# Altium integrated library Linear Technology Power Management System Supervisor, Monitor and Control.IntLib: 1611 symbols (part 94 of 100)
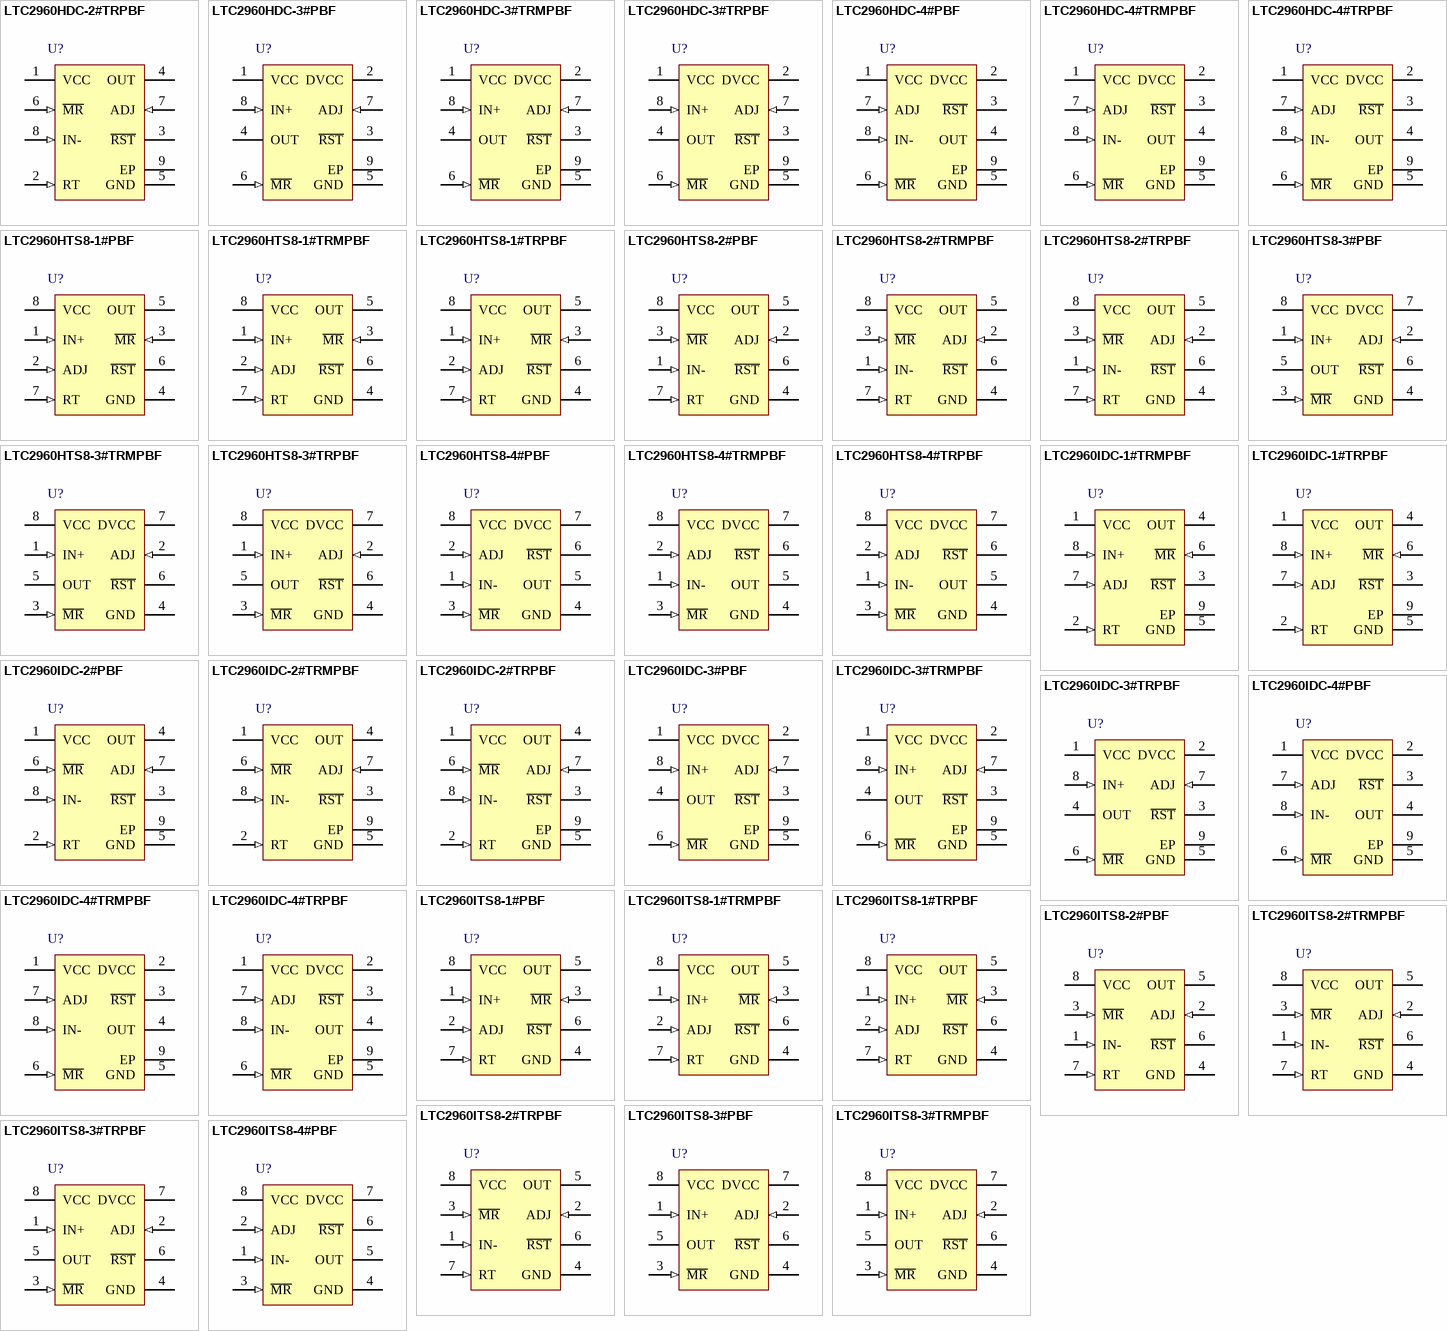
[diagram p138: symbols LTC2960HDC-2#TRPBF to LTC2960ITS8-4#PBF]

## LTC2960HTS8-4#TRPBF
designator U?
36 V Nano-Current Two Input Voltage Monitor, 8-pin SOT23 (TS8-8), -40 to 125 degC, Pb-Free, Tape and Reel; Manufacturer: Linear Technology; PartNumber: LTC2960HTS8-4#TRPBF; Number of Supplies(#): 2; PackageVersion: Rev. A, 08/2010; PackageReference: TS8-8; PackageDescription: 8-Pin Plastic TSOT-23, Body 2.9 x 1.63 mm, Pitch 0.65 mm; Supplier 1: Digi-Key; Supplier Part Number 1: LTC2960HTS8-4#TRPBF-ND; Packing: Tape and Reel; RoHS: TRUE; Mounting Technology: Surface Mount; Code_JEDEC: MO-193; ComponentLink1Description: Manufacturer URL; ComponentLink1URL: http://www.linear.com/; ComponentLink2Description: Datasheet; ComponentLink2URL: http://cds.linear.com/docs/en/datasheet/2960f.pdf; ComponentLink3Description: Package Specification; ComponentLink3URL: http://cds.linear.com/docs/en/packaging/SOT_8_05-08-1637.pdf
footprint LT-TS8-8-TSOT-23_V (SOT23, 8-Leads, Body 2.9x1.75mm, Pitch 0.65mm)
pins: 1 IN- (in) "IN- Threshold Adjustment Input. Tie to resistive divider to configure required threshold. Tie to GND if unused.", 2 ADJ (in) "Reset Threshold Adjustment Input. Tie to resistive divider to configure desired reset threshold.", 3 ~{MR} (in) "Manual Reset Input. Attach a push-button switch or logic signal between this input and ground. A logic low on this input pulls R\S\T\ low. When the M\R\ input returns to logic high, R\S\T\ returns high after a reset timeout (See Datasheet)", 4 GND (power) "Device ground.", 5 OUT (oc) "OUT pulls low when the monitored voltage rises above the IN- threshold. Released when monitored voltage falls below IN- threshold by 5%. For the LTC2960-4, OUT is driven to DVCC for a logic high. OUT is open drain if DVCC is (See Datasheet)", 6 ~{RST} (oc) "Reset Output. Pulls low when monitored voltage falls below the reset (ADJ) threshold. R\S\T\ is released after monitored voltage exceeds the reset threshold plus 2.5% hysteresis and after reset timeout period has expired. (See Datasheet)", 7 DVCC (power) "Logic Supply Input. Used for setting the logic swing of the R\S\T\ and OUT outputs. Useful for interfacing with logic voltages different from VCC. Bypass DVCC with 0.1uF to GND. Grounding DVCC allows OUT and R\S\T\ to act as (See Datasheet)", 8 VCC (power) "Power Supply Input. When VCC falls below the falling UVLO threshold, the outputs are pulled low. If VCC falls below 1.2V the logic state of the outputs cannot be guaranteed. Bypass VCC with 0.1uF to GND. Use appropriate (See Datasheet)"

## LTC2960IDC-1#TRMPBF
designator U?
36 V Nano-Current Two Input Voltage Monitor, 8-pin SON (DC8-8), -40 to 85 degC, Pb-Free, Mini Tape and Reel; Manufacturer: Linear Technology; PartNumber: LTC2960IDC-1#TRMPBF; Number of Supplies(#): 2; PackageVersion: Rev. A, 06/2010; PackageReference: DC8-8; PackageDescription: 8-Pin Plastic DFN, Body 2 x 2 mm, Pitch 0.45 mm; Supplier 1: Digi-Key; Supplier Part Number 1: LTC2960IDC-1#TRMPBFTR-ND; Supplier 2: Digi-Key; Supplier Part Number 2: LTC2960IDC-1#TRMPBFCT-ND; Supplier 3: Digi-Key; Supplier Part Number 3: LTC2960IDC-1#TRMPBFDKR-ND; Packing: Mini Tape and Reel; RoHS: TRUE; Mounting Technology: Surface Mount; ComponentLink1Description: Manufacturer URL; ComponentLink1URL: http://www.linear.com/; ComponentLink2Description: Datasheet; ComponentLink2URL: http://cds.linear.com/docs/en/datasheet/2960f.pdf; ComponentLink3Description: Package Specification; ComponentLink3URL: http://www.linear.com/docs/en/packaging/DFN_8_05-08-1719.pdf
footprint LT-DC8-8_V (SON, 8-Leads, Body 2x2mm, Pitch 0.45mm, Thermal Pad 1.37x0.64mm)
pins: 1 VCC (power) "Power Supply Input. When VCC falls below the falling UVLO threshold, the outputs are pulled low. If VCC falls below 1.2V the logic state of the outputs cannot be guaranteed. Bypass VCC with 0.1uF to GND. Use appropriate (See Datasheet)", 2 RT (in) "Reset Timeout Period Selection Input. Tie to GND for 15ms delay. Tie to VCC for 200ms delay.", 3 ~{RST} (oc) "Reset Output. Pulls low when monitored voltage falls below the reset (ADJ) threshold. R\S\T\ is released after monitored voltage exceeds the reset threshold plus 2.5% hysteresis and after reset timeout period has expired.", 4 OUT (oc) "Pulls low when monitored voltage falls below the IN+ threshold. Released when the IN+ voltage rises above its threshold by 5%.", 5 GND (power) "Device ground.", 6 ~{MR} (in) "Manual Reset Input. Attach a push-button switch or logic signal between this input and ground. A logic low on this input pulls R\S\T\ low. When the M\R\ input returns to logic high, R\S\T\ returns high after a reset timeout (See Datasheet)", 7 ADJ (in) "Reset Threshold Adjustment Input. Tie to resistive divider to configure desired reset threshold.", 8 IN+ (in) "IN+ Threshold Adjustment Input. Tie to resistive divider to configure required threshold. Tie to GND if unused.", 9 EP (power) "Exposed pad PCB GND"

## LTC2960IDC-1#TRPBF
designator U?
36 V Nano-Current Two Input Voltage Monitor, 8-pin SON (DC8-8), -40 to 85 degC, Pb-Free, Tape and Reel; Manufacturer: Linear Technology; PartNumber: LTC2960IDC-1#TRPBF; Number of Supplies(#): 2; PackageVersion: Rev. A, 06/2010; PackageReference: DC8-8; PackageDescription: 8-Pin Plastic DFN, Body 2 x 2 mm, Pitch 0.45 mm; Supplier 1: Digi-Key; Supplier Part Number 1: LTC2960IDC-1#TRPBF-ND; Packing: Tape and Reel; RoHS: TRUE; Mounting Technology: Surface Mount; ComponentLink1Description: Manufacturer URL; ComponentLink1URL: http://www.linear.com/; ComponentLink2Description: Datasheet; ComponentLink2URL: http://cds.linear.com/docs/en/datasheet/2960f.pdf; ComponentLink3Description: Package Specification; ComponentLink3URL: http://www.linear.com/docs/en/packaging/DFN_8_05-08-1719.pdf
footprint LT-DC8-8_V (SON, 8-Leads, Body 2x2mm, Pitch 0.45mm, Thermal Pad 1.37x0.64mm)
pins: 1 VCC (power) "Power Supply Input. When VCC falls below the falling UVLO threshold, the outputs are pulled low. If VCC falls below 1.2V the logic state of the outputs cannot be guaranteed. Bypass VCC with 0.1uF to GND. Use appropriate (See Datasheet)", 2 RT (in) "Reset Timeout Period Selection Input. Tie to GND for 15ms delay. Tie to VCC for 200ms delay.", 3 ~{RST} (oc) "Reset Output. Pulls low when monitored voltage falls below the reset (ADJ) threshold. R\S\T\ is released after monitored voltage exceeds the reset threshold plus 2.5% hysteresis and after reset timeout period has expired.", 4 OUT (oc) "Pulls low when monitored voltage falls below the IN+ threshold. Released when the IN+ voltage rises above its threshold by 5%.", 5 GND (power) "Device ground.", 6 ~{MR} (in) "Manual Reset Input. Attach a push-button switch or logic signal between this input and ground. A logic low on this input pulls R\S\T\ low. When the M\R\ input returns to logic high, R\S\T\ returns high after a reset timeout (See Datasheet)", 7 ADJ (in) "Reset Threshold Adjustment Input. Tie to resistive divider to configure desired reset threshold.", 8 IN+ (in) "IN+ Threshold Adjustment Input. Tie to resistive divider to configure required threshold. Tie to GND if unused.", 9 EP (power) "Exposed pad PCB GND"

## LTC2960IDC-2#PBF
designator U?
36 V Nano-Current Two Input Voltage Monitor, 8-pin SON (DC8-8), -40 to 85 degC, Pb-Free; Manufacturer: Linear Technology; PartNumber: LTC2960IDC-2#PBF; Number of Supplies(#): 2; PackageVersion: Rev. A, 06/2010; PackageReference: DC8-8; PackageDescription: 8-Pin Plastic DFN, Body 2 x 2 mm, Pitch 0.45 mm; Supplier 1: Farnell; Supplier Part Number 1: 2097973; Supplier 2: Newark; Supplier Part Number 2: 93T2014; RoHS: TRUE; Mounting Technology: Surface Mount; ComponentLink1Description: Manufacturer URL; ComponentLink1URL: http://www.linear.com/; ComponentLink2Description: Datasheet; ComponentLink2URL: http://cds.linear.com/docs/en/datasheet/2960f.pdf; ComponentLink3Description: Package Specification; ComponentLink3URL: http://www.linear.com/docs/en/packaging/DFN_8_05-08-1719.pdf
footprint LT-DC8-8_V (SON, 8-Leads, Body 2x2mm, Pitch 0.45mm, Thermal Pad 1.37x0.64mm)
pins: 1 VCC (power) "Power Supply Input. When VCC falls below the falling UVLO threshold, the outputs are pulled low. If VCC falls below 1.2V the logic state of the outputs cannot be guaranteed. Bypass VCC with 0.1uF to GND. Use appropriate (See Datasheet)", 2 RT (in) "Reset Timeout Period Selection Input. Tie to GND for 15ms delay. Tie to VCC for 200ms delay.", 3 ~{RST} (oc) "Reset Output. Pulls low when monitored voltage falls below the reset (ADJ) threshold.", 4 OUT (oc) "Pulls low when monitored voltage falls below the IN+ threshold.", 5 GND (power) "Device ground.", 6 ~{MR} (in) "Manual Reset Input. Attach a push-button switch or logic signal between this input and ground. A logic low on this input pulls R\S\T\ low. When the M\R\ input returns to logic high, R\S\T\ returns high after a reset timeout (See Datasheet)", 7 ADJ (in) "Reset Threshold Adjustment Input. Tie to resistive divider to configure desired reset threshold.", 8 IN- (in) "IN- Threshold Adjustment Input. Tie to resistive divider to configure required threshold. Tie to GND if unused.", 9 EP (power) "Exposed pad may be left floating or connected to device ground."

## LTC2960IDC-2#TRMPBF
designator U?
36 V Nano-Current Two Input Voltage Monitor, 8-pin SON (DC8-8), -40 to 85 degC, Pb-Free, Mini Tape and Reel; Manufacturer: Linear Technology; PartNumber: LTC2960IDC-2#TRMPBF; Number of Supplies(#): 2; PackageVersion: Rev. A, 06/2010; PackageReference: DC8-8; PackageDescription: 8-Pin Plastic DFN, Body 2 x 2 mm, Pitch 0.45 mm; Supplier 1: Digi-Key; Supplier Part Number 1: LTC2960IDC-2#TRMPBFTR-ND; Supplier 2: Digi-Key; Supplier Part Number 2: LTC2960IDC-2#TRMPBFCT-ND; Supplier 3: Digi-Key; Supplier Part Number 3: LTC2960IDC-2#TRMPBFDKR-ND; Packing: Mini Tape and Reel; RoHS: TRUE; Mounting Technology: Surface Mount; ComponentLink1Description: Manufacturer URL; ComponentLink1URL: http://www.linear.com/; ComponentLink2Description: Datasheet; ComponentLink2URL: http://cds.linear.com/docs/en/datasheet/2960f.pdf; ComponentLink3Description: Package Specification; ComponentLink3URL: http://www.linear.com/docs/en/packaging/DFN_8_05-08-1719.pdf
footprint LT-DC8-8_V (SON, 8-Leads, Body 2x2mm, Pitch 0.45mm, Thermal Pad 1.37x0.64mm)
pins: 1 VCC (power) "Power Supply Input. When VCC falls below the falling UVLO threshold, the outputs are pulled low. If VCC falls below 1.2V the logic state of the outputs cannot be guaranteed. Bypass VCC with 0.1uF to GND. Use appropriate (See Datasheet)", 2 RT (in) "Reset Timeout Period Selection Input. Tie to GND for 15ms delay. Tie to VCC for 200ms delay.", 3 ~{RST} (oc) "Reset Output. Pulls low when monitored voltage falls below the reset (ADJ) threshold.", 4 OUT (oc) "Pulls low when monitored voltage falls below the IN+ threshold.", 5 GND (power) "Device ground.", 6 ~{MR} (in) "Manual Reset Input. Attach a push-button switch or logic signal between this input and ground. A logic low on this input pulls R\S\T\ low. When the M\R\ input returns to logic high, R\S\T\ returns high after a reset timeout (See Datasheet)", 7 ADJ (in) "Reset Threshold Adjustment Input. Tie to resistive divider to configure desired reset threshold.", 8 IN- (in) "IN- Threshold Adjustment Input. Tie to resistive divider to configure required threshold. Tie to GND if unused.", 9 EP (power) "Exposed pad may be left floating or connected to device ground."

## LTC2960IDC-2#TRPBF
designator U?
36 V Nano-Current Two Input Voltage Monitor, 8-pin SON (DC8-8), -40 to 85 degC, Pb-Free, Tape and Reel; Manufacturer: Linear Technology; PartNumber: LTC2960IDC-2#TRPBF; Number of Supplies(#): 2; PackageVersion: Rev. A, 06/2010; PackageReference: DC8-8; PackageDescription: 8-Pin Plastic DFN, Body 2 x 2 mm, Pitch 0.45 mm; Supplier 1: Digi-Key; Supplier Part Number 1: LTC2960IDC-2#TRPBF-ND; Packing: Tape and Reel; RoHS: TRUE; Mounting Technology: Surface Mount; ComponentLink1Description: Manufacturer URL; ComponentLink1URL: http://www.linear.com/; ComponentLink2Description: Datasheet; ComponentLink2URL: http://cds.linear.com/docs/en/datasheet/2960f.pdf; ComponentLink3Description: Package Specification; ComponentLink3URL: http://www.linear.com/docs/en/packaging/DFN_8_05-08-1719.pdf
footprint LT-DC8-8_V (SON, 8-Leads, Body 2x2mm, Pitch 0.45mm, Thermal Pad 1.37x0.64mm)
pins: 1 VCC (power) "Power Supply Input. When VCC falls below the falling UVLO threshold, the outputs are pulled low. If VCC falls below 1.2V the logic state of the outputs cannot be guaranteed. Bypass VCC with 0.1uF to GND. Use appropriate (See Datasheet)", 2 RT (in) "Reset Timeout Period Selection Input. Tie to GND for 15ms delay. Tie to VCC for 200ms delay.", 3 ~{RST} (oc) "Reset Output. Pulls low when monitored voltage falls below the reset (ADJ) threshold.", 4 OUT (oc) "Pulls low when monitored voltage falls below the IN+ threshold.", 5 GND (power) "Device ground.", 6 ~{MR} (in) "Manual Reset Input. Attach a push-button switch or logic signal between this input and ground. A logic low on this input pulls R\S\T\ low. When the M\R\ input returns to logic high, R\S\T\ returns high after a reset timeout (See Datasheet)", 7 ADJ (in) "Reset Threshold Adjustment Input. Tie to resistive divider to configure desired reset threshold.", 8 IN- (in) "IN- Threshold Adjustment Input. Tie to resistive divider to configure required threshold. Tie to GND if unused.", 9 EP (power) "Exposed pad may be left floating or connected to device ground."

## LTC2960IDC-3#PBF
designator U?
36 V Nano-Current Two Input Voltage Monitor, 8-pin SON (DC8-8), -40 to 85 degC, Pb-Free; Manufacturer: Linear Technology; PartNumber: LTC2960IDC-3#PBF; Number of Supplies(#): 2; PackageVersion: Rev. A, 06/2010; PackageReference: DC8-8; PackageDescription: 8-Pin Plastic DFN, Body 2 x 2 mm, Pitch 0.45 mm; Supplier 1: Farnell; Supplier Part Number 1: 2097974; Supplier 2: Newark; Supplier Part Number 2: 93T2015; RoHS: TRUE; Mounting Technology: Surface Mount; ComponentLink1Description: Manufacturer URL; ComponentLink1URL: http://www.linear.com/; ComponentLink2Description: Datasheet; ComponentLink2URL: http://cds.linear.com/docs/en/datasheet/2960f.pdf; ComponentLink3Description: Package Specification; ComponentLink3URL: http://www.linear.com/docs/en/packaging/DFN_8_05-08-1719.pdf
footprint LT-DC8-8_V (SON, 8-Leads, Body 2x2mm, Pitch 0.45mm, Thermal Pad 1.37x0.64mm)
pins: 1 VCC (power) "Power Supply Input. When VCC falls below the falling UVLO threshold, the outputs are pulled low. If VCC falls below 1.2V the logic state of the outputs cannot be guaranteed. Bypass VCC with 0.1uF to GND. Use appropriate (See Datasheet)", 2 DVCC (power) "LTC2960-3 Logic Supply Input. Used for setting the logic swing of the R\S\T\ and OUT outputs. Useful for interfacing with logic voltages different from VCC. Bypass DVCC with 0.1uF to GND. Grounding DVCC allows OUT and R\S\T\ (See Datasheet)", 3 ~{RST} (oc) "Reset Output. Pulls low when monitored voltage falls below the reset (ADJ) threshold. R\S\T\ is released after monitored voltage exceeds the reset threshold plus 2.5% hysteresis and after reset timeout period has expired. (See Datasheet)", 4 OUT (oc) "LTC2960-3 Pulls low when monitored voltage falls below the IN+ threshold. Released when the IN+ voltage rises above its threshold by 5%. For the LTC2960-3, OUT is driven by DVCC when logic high. OUT is open drain if DVCC is (See Datasheet)", 5 GND (power) "Device ground.", 6 ~{MR} (in) "Manual Reset Input. Attach a push-button switch or logic signal between this input and ground. A logic low on this input pulls R\S\T\ low. When the M\R\ input returns to logic high, R\S\T\ returns high after a reset timeout (See Datasheet)", 7 ADJ (in) "Reset Threshold Adjustment Input. Tie to resistive divider to configure desired reset threshold.", 8 IN+ (in) "LTC2960-3 IN+ Threshold Adjustment Input. Tie to resistive divider to configure required threshold. Tie to GND if unused.", 9 EP (power) "Exposed pad may be left floating or connected to device ground."

## LTC2960IDC-3#TRMPBF
designator U?
36 V Nano-Current Two Input Voltage Monitor, 8-pin SON (DC8-8), -40 to 85 degC, Pb-Free, Mini Tape and Reel; Manufacturer: Linear Technology; PartNumber: LTC2960IDC-3#TRMPBF; Number of Supplies(#): 2; PackageVersion: Rev. A, 06/2010; PackageReference: DC8-8; PackageDescription: 8-Pin Plastic DFN, Body 2 x 2 mm, Pitch 0.45 mm; Supplier 1: Digi-Key; Supplier Part Number 1: LTC2960IDC-3#TRMPBFTR-ND; Supplier 2: Digi-Key; Supplier Part Number 2: LTC2960IDC-3#TRMPBFCT-ND; Supplier 3: Digi-Key; Supplier Part Number 3: LTC2960IDC-3#TRMPBFDKR-ND; Supplier 4: Newark; Supplier Part Number 4: 94T1225; Packing: Mini Tape and Reel; RoHS: TRUE; Mounting Technology: Surface Mount; ComponentLink1Description: Manufacturer URL; ComponentLink1URL: http://www.linear.com/; ComponentLink2Description: Datasheet; ComponentLink2URL: http://cds.linear.com/docs/en/datasheet/2960f.pdf; ComponentLink3Description: Package Specification; ComponentLink3URL: http://www.linear.com/docs/en/packaging/DFN_8_05-08-1719.pdf
footprint LT-DC8-8_V (SON, 8-Leads, Body 2x2mm, Pitch 0.45mm, Thermal Pad 1.37x0.64mm)
pins: 1 VCC (power) "Power Supply Input. When VCC falls below the falling UVLO threshold, the outputs are pulled low. If VCC falls below 1.2V the logic state of the outputs cannot be guaranteed. Bypass VCC with 0.1uF to GND. Use appropriate (See Datasheet)", 2 DVCC (power) "LTC2960-3 Logic Supply Input. Used for setting the logic swing of the R\S\T\ and OUT outputs. Useful for interfacing with logic voltages different from VCC. Bypass DVCC with 0.1uF to GND. Grounding DVCC allows OUT and R\S\T\ (See Datasheet)", 3 ~{RST} (oc) "Reset Output. Pulls low when monitored voltage falls below the reset (ADJ) threshold. R\S\T\ is released after monitored voltage exceeds the reset threshold plus 2.5% hysteresis and after reset timeout period has expired. (See Datasheet)", 4 OUT (oc) "LTC2960-3 Pulls low when monitored voltage falls below the IN+ threshold. Released when the IN+ voltage rises above its threshold by 5%. For the LTC2960-3, OUT is driven by DVCC when logic high. OUT is open drain if DVCC is (See Datasheet)", 5 GND (power) "Device ground.", 6 ~{MR} (in) "Manual Reset Input. Attach a push-button switch or logic signal between this input and ground. A logic low on this input pulls R\S\T\ low. When the M\R\ input returns to logic high, R\S\T\ returns high after a reset timeout (See Datasheet)", 7 ADJ (in) "Reset Threshold Adjustment Input. Tie to resistive divider to configure desired reset threshold.", 8 IN+ (in) "LTC2960-3 IN+ Threshold Adjustment Input. Tie to resistive divider to configure required threshold. Tie to GND if unused.", 9 EP (power) "Exposed pad may be left floating or connected to device ground."

## LTC2960IDC-3#TRPBF
designator U?
36 V Nano-Current Two Input Voltage Monitor, 8-pin SON (DC8-8), -40 to 85 degC, Pb-Free, Tape and Reel; Manufacturer: Linear Technology; PartNumber: LTC2960IDC-3#TRPBF; Number of Supplies(#): 2; PackageVersion: Rev. A, 06/2010; PackageReference: DC8-8; PackageDescription: 8-Pin Plastic DFN, Body 2 x 2 mm, Pitch 0.45 mm; Supplier 1: Digi-Key; Supplier Part Number 1: LTC2960IDC-3#TRPBF-ND; Packing: Tape and Reel; RoHS: TRUE; Mounting Technology: Surface Mount; ComponentLink1Description: Manufacturer URL; ComponentLink1URL: http://www.linear.com/; ComponentLink2Description: Datasheet; ComponentLink2URL: http://cds.linear.com/docs/en/datasheet/2960f.pdf; ComponentLink3Description: Package Specification; ComponentLink3URL: http://www.linear.com/docs/en/packaging/DFN_8_05-08-1719.pdf
footprint LT-DC8-8_V (SON, 8-Leads, Body 2x2mm, Pitch 0.45mm, Thermal Pad 1.37x0.64mm)
pins: 1 VCC (power) "Power Supply Input. When VCC falls below the falling UVLO threshold, the outputs are pulled low. If VCC falls below 1.2V the logic state of the outputs cannot be guaranteed. Bypass VCC with 0.1uF to GND. Use appropriate (See Datasheet)", 2 DVCC (power) "LTC2960-3 Logic Supply Input. Used for setting the logic swing of the R\S\T\ and OUT outputs. Useful for interfacing with logic voltages different from VCC. Bypass DVCC with 0.1uF to GND. Grounding DVCC allows OUT and R\S\T\ (See Datasheet)", 3 ~{RST} (oc) "Reset Output. Pulls low when monitored voltage falls below the reset (ADJ) threshold. R\S\T\ is released after monitored voltage exceeds the reset threshold plus 2.5% hysteresis and after reset timeout period has expired. (See Datasheet)", 4 OUT (oc) "LTC2960-3 Pulls low when monitored voltage falls below the IN+ threshold. Released when the IN+ voltage rises above its threshold by 5%. For the LTC2960-3, OUT is driven by DVCC when logic high. OUT is open drain if DVCC is (See Datasheet)", 5 GND (power) "Device ground.", 6 ~{MR} (in) "Manual Reset Input. Attach a push-button switch or logic signal between this input and ground. A logic low on this input pulls R\S\T\ low. When the M\R\ input returns to logic high, R\S\T\ returns high after a reset timeout (See Datasheet)", 7 ADJ (in) "Reset Threshold Adjustment Input. Tie to resistive divider to configure desired reset threshold.", 8 IN+ (in) "LTC2960-3 IN+ Threshold Adjustment Input. Tie to resistive divider to configure required threshold. Tie to GND if unused.", 9 EP (power) "Exposed pad may be left floating or connected to device ground."

## LTC2960IDC-4#PBF
designator U?
36 V Nano-Current Two Input Voltage Monitor, 8-pin SON (DC8-8), -40 to 85 degC, Pb-Free; Manufacturer: Linear Technology; PartNumber: LTC2960IDC-4#PBF; Number of Supplies(#): 2; PackageVersion: Rev. A, 06/2010; PackageReference: DC8-8; PackageDescription: 8-Pin Plastic DFN, Body 2 x 2 mm, Pitch 0.45 mm; Supplier 1: Farnell; Supplier Part Number 1: 2097975; Supplier 2: Newark; Supplier Part Number 2: 93T2016; RoHS: TRUE; Mounting Technology: Surface Mount; ComponentLink1Description: Manufacturer URL; ComponentLink1URL: http://www.linear.com/; ComponentLink2Description: Datasheet; ComponentLink2URL: http://cds.linear.com/docs/en/datasheet/2960f.pdf; ComponentLink3Description: Package Specification; ComponentLink3URL: http://www.linear.com/docs/en/packaging/DFN_8_05-08-1719.pdf
footprint LT-DC8-8_V (SON, 8-Leads, Body 2x2mm, Pitch 0.45mm, Thermal Pad 1.37x0.64mm)
pins: 1 VCC (power) "Power Supply Input. When VCC falls below the falling UVLO threshold, the outputs are pulled low. If VCC falls below 1.2V the logic state of the outputs cannot be guaranteed. Bypass VCC with 0.1uF to GND. Use appropriate (See Datasheet)", 2 DVCC (power) "Logic Supply Input. Used for setting the logic swing of the R\S\T\ and OUT outputs. Useful for interfacing with logic voltages different from VCC. Bypass DVCC with 0.1uF to GND. Grounding DVCC allows OUT and R\S\T\ to act as (See Datasheet)", 3 ~{RST} (oc) "Reset Output. Pulls low when monitored voltage falls below the reset (ADJ) threshold.", 4 OUT (oc) "Pulls low when monitored voltage falls below the IN+ threshold.", 5 GND (power) "Device ground.", 6 ~{MR} (in) "Manual Reset Input. Attach a push-button switch or logic signal between this input and ground. A logic low on this input pulls R\S\T\ low. When the M\R\ input returns to logic high, R\S\T\ returns high after a reset timeout (See Datasheet)", 7 ADJ (in) "Reset Threshold Adjustment Input. Tie to resistive divider to configure desired reset threshold.", 8 IN- (in) "IN- Threshold Adjustment Input. Tie to resistive divider to configure required threshold. Tie to GND if unused.", 9 EP (power) "Exposed pad may be left floating or connected to device ground."

## LTC2960IDC-4#TRMPBF
designator U?
36 V Nano-Current Two Input Voltage Monitor, 8-pin SON (DC8-8), -40 to 85 degC, Pb-Free, Mini Tape and Reel; Manufacturer: Linear Technology; PartNumber: LTC2960IDC-4#TRMPBF; Number of Supplies(#): 2; PackageVersion: Rev. A, 06/2010; PackageReference: DC8-8; PackageDescription: 8-Pin Plastic DFN, Body 2 x 2 mm, Pitch 0.45 mm; Supplier 1: Digi-Key; Supplier Part Number 1: LTC2960IDC-4#TRMPBFTR-ND; Supplier 2: Digi-Key; Supplier Part Number 2: LTC2960IDC-4#TRMPBFCT-ND; Supplier 3: Digi-Key; Supplier Part Number 3: LTC2960IDC-4#TRMPBFDKR-ND; Packing: Mini Tape and Reel; RoHS: TRUE; Mounting Technology: Surface Mount; ComponentLink1Description: Manufacturer URL; ComponentLink1URL: http://www.linear.com/; ComponentLink2Description: Datasheet; ComponentLink2URL: http://cds.linear.com/docs/en/datasheet/2960f.pdf; ComponentLink3Description: Package Specification; ComponentLink3URL: http://www.linear.com/docs/en/packaging/DFN_8_05-08-1719.pdf
footprint LT-DC8-8_V (SON, 8-Leads, Body 2x2mm, Pitch 0.45mm, Thermal Pad 1.37x0.64mm)
pins: 1 VCC (power) "Power Supply Input. When VCC falls below the falling UVLO threshold, the outputs are pulled low. If VCC falls below 1.2V the logic state of the outputs cannot be guaranteed. Bypass VCC with 0.1uF to GND. Use appropriate (See Datasheet)", 2 DVCC (power) "Logic Supply Input. Used for setting the logic swing of the R\S\T\ and OUT outputs. Useful for interfacing with logic voltages different from VCC. Bypass DVCC with 0.1uF to GND. Grounding DVCC allows OUT and R\S\T\ to act as (See Datasheet)", 3 ~{RST} (oc) "Reset Output. Pulls low when monitored voltage falls below the reset (ADJ) threshold.", 4 OUT (oc) "Pulls low when monitored voltage falls below the IN+ threshold.", 5 GND (power) "Device ground.", 6 ~{MR} (in) "Manual Reset Input. Attach a push-button switch or logic signal between this input and ground. A logic low on this input pulls R\S\T\ low. When the M\R\ input returns to logic high, R\S\T\ returns high after a reset timeout (See Datasheet)", 7 ADJ (in) "Reset Threshold Adjustment Input. Tie to resistive divider to configure desired reset threshold.", 8 IN- (in) "IN- Threshold Adjustment Input. Tie to resistive divider to configure required threshold. Tie to GND if unused.", 9 EP (power) "Exposed pad may be left floating or connected to device ground."

## LTC2960IDC-4#TRPBF
designator U?
36 V Nano-Current Two Input Voltage Monitor, 8-pin SON (DC8-8), -40 to 85 degC, Pb-Free, Tape and Reel; Manufacturer: Linear Technology; PartNumber: LTC2960IDC-4#TRPBF; Number of Supplies(#): 2; PackageVersion: Rev. A, 06/2010; PackageReference: DC8-8; PackageDescription: 8-Pin Plastic DFN, Body 2 x 2 mm, Pitch 0.45 mm; Supplier 1: Digi-Key; Supplier Part Number 1: LTC2960IDC-4#TRPBF-ND; Packing: Tape and Reel; RoHS: TRUE; Mounting Technology: Surface Mount; ComponentLink1Description: Manufacturer URL; ComponentLink1URL: http://www.linear.com/; ComponentLink2Description: Datasheet; ComponentLink2URL: http://cds.linear.com/docs/en/datasheet/2960f.pdf; ComponentLink3Description: Package Specification; ComponentLink3URL: http://www.linear.com/docs/en/packaging/DFN_8_05-08-1719.pdf
footprint LT-DC8-8_V (SON, 8-Leads, Body 2x2mm, Pitch 0.45mm, Thermal Pad 1.37x0.64mm)
pins: 1 VCC (power) "Power Supply Input. When VCC falls below the falling UVLO threshold, the outputs are pulled low. If VCC falls below 1.2V the logic state of the outputs cannot be guaranteed. Bypass VCC with 0.1uF to GND. Use appropriate (See Datasheet)", 2 DVCC (power) "Logic Supply Input. Used for setting the logic swing of the R\S\T\ and OUT outputs. Useful for interfacing with logic voltages different from VCC. Bypass DVCC with 0.1uF to GND. Grounding DVCC allows OUT and R\S\T\ to act as (See Datasheet)", 3 ~{RST} (oc) "Reset Output. Pulls low when monitored voltage falls below the reset (ADJ) threshold.", 4 OUT (oc) "Pulls low when monitored voltage falls below the IN+ threshold.", 5 GND (power) "Device ground.", 6 ~{MR} (in) "Manual Reset Input. Attach a push-button switch or logic signal between this input and ground. A logic low on this input pulls R\S\T\ low. When the M\R\ input returns to logic high, R\S\T\ returns high after a reset timeout (See Datasheet)", 7 ADJ (in) "Reset Threshold Adjustment Input. Tie to resistive divider to configure desired reset threshold.", 8 IN- (in) "IN- Threshold Adjustment Input. Tie to resistive divider to configure required threshold. Tie to GND if unused.", 9 EP (power) "Exposed pad may be left floating or connected to device ground."

## LTC2960ITS8-1#PBF
designator U?
36 V Nano-Current Two Input Voltage Monitor, 8-pin SOT23 (TS8-8), -40 to 85 degC, Pb-Free; Manufacturer: Linear Technology; PartNumber: LTC2960ITS8-1#PBF; Number of Supplies(#): 2; PackageVersion: Rev. A, 08/2010; PackageReference: TS8-8; PackageDescription: 8-Pin Plastic TSOT-23, Body 2.9 x 1.63 mm, Pitch 0.65 mm; Supplier 1: Farnell; Supplier Part Number 1: 2097976; Supplier 2: Newark; Supplier Part Number 2: 93T2017; RoHS: TRUE; Mounting Technology: Surface Mount; Code_JEDEC: MO-193; ComponentLink1Description: Manufacturer URL; ComponentLink1URL: http://www.linear.com/; ComponentLink2Description: Datasheet; ComponentLink2URL: http://cds.linear.com/docs/en/datasheet/2960f.pdf; ComponentLink3Description: Package Specification; ComponentLink3URL: http://cds.linear.com/docs/en/packaging/SOT_8_05-08-1637.pdf
footprint LT-TS8-8-TSOT-23_V (SOT23, 8-Leads, Body 2.9x1.75mm, Pitch 0.65mm)
pins: 1 IN+ (in) "IN+ Threshold Adjustment Input. Tie to resistive divider to configure required threshold. Tie to GND if unused.", 2 ADJ (in) "Reset Threshold Adjustment Input. Tie to resistive divider to configure desired reset threshold.", 3 ~{MR} (in) "Manual Reset Input. Attach a push-button switch or logic signal between this input and ground. A logic low on this input pulls R\S\T\ low. When the M\R\ input returns to logic high, R\S\T\ returns high after a reset timeout (See Datasheet)", 4 GND (power) "Device ground.", 5 OUT (oc) "Pulls low when monitored voltage falls below the IN+ threshold.", 6 ~{RST} (oc) "Reset Output. Pulls low when monitored voltage falls below the reset (ADJ) threshold.", 7 RT (in) "Reset Timeout Period Selection Input. Tie to GND for 15ms delay. Tie to VCC for 200ms delay.", 8 VCC (power) "Power Supply Input. When VCC falls below the falling UVLO threshold, the outputs are pulled low. If VCC falls below 1.2V the logic state of the outputs cannot be guaranteed. Bypass VCC with 0.1uF to GND. Use appropriate (See Datasheet)"

## LTC2960ITS8-1#TRMPBF
designator U?
36 V Nano-Current Two Input Voltage Monitor, 8-pin SOT23 (TS8-8), -40 to 85 degC, Pb-Free, Mini Tape and Reel; Manufacturer: Linear Technology; PartNumber: LTC2960ITS8-1#TRMPBF; Number of Supplies(#): 2; PackageVersion: Rev. A, 08/2010; PackageReference: TS8-8; PackageDescription: 8-Pin Plastic TSOT-23, Body 2.9 x 1.63 mm, Pitch 0.65 mm; Supplier 1: Digi-Key; Supplier Part Number 1: LTC2960ITS8-1#TRMPBFTR-ND; Supplier 2: Digi-Key; Supplier Part Number 2: LTC2960ITS8-1#TRMPBFCT-ND; Supplier 3: Digi-Key; Supplier Part Number 3: LTC2960ITS8-1#TRMPBFDKR-ND; Supplier 4: Newark; Supplier Part Number 4: 94T1229; Packing: Mini Tape and Reel; RoHS: TRUE; Mounting Technology: Surface Mount; Code_JEDEC: MO-193; ComponentLink1Description: Manufacturer URL; ComponentLink1URL: http://www.linear.com/; ComponentLink2Description: Datasheet; ComponentLink2URL: http://cds.linear.com/docs/en/datasheet/2960f.pdf; ComponentLink3Description: Package Specification; ComponentLink3URL: http://cds.linear.com/docs/en/packaging/SOT_8_05-08-1637.pdf
footprint LT-TS8-8-TSOT-23_V (SOT23, 8-Leads, Body 2.9x1.75mm, Pitch 0.65mm)
pins: 1 IN+ (in) "IN+ Threshold Adjustment Input. Tie to resistive divider to configure required threshold. Tie to GND if unused.", 2 ADJ (in) "Reset Threshold Adjustment Input. Tie to resistive divider to configure desired reset threshold.", 3 ~{MR} (in) "Manual Reset Input. Attach a push-button switch or logic signal between this input and ground. A logic low on this input pulls R\S\T\ low. When the M\R\ input returns to logic high, R\S\T\ returns high after a reset timeout (See Datasheet)", 4 GND (power) "Device ground.", 5 OUT (oc) "Pulls low when monitored voltage falls below the IN+ threshold.", 6 ~{RST} (oc) "Reset Output. Pulls low when monitored voltage falls below the reset (ADJ) threshold.", 7 RT (in) "Reset Timeout Period Selection Input. Tie to GND for 15ms delay. Tie to VCC for 200ms delay.", 8 VCC (power) "Power Supply Input. When VCC falls below the falling UVLO threshold, the outputs are pulled low. If VCC falls below 1.2V the logic state of the outputs cannot be guaranteed. Bypass VCC with 0.1uF to GND. Use appropriate (See Datasheet)"

## LTC2960ITS8-1#TRPBF
designator U?
36 V Nano-Current Two Input Voltage Monitor, 8-pin SOT23 (TS8-8), -40 to 85 degC, Pb-Free, Tape and Reel; Manufacturer: Linear Technology; PartNumber: LTC2960ITS8-1#TRPBF; Number of Supplies(#): 2; PackageVersion: Rev. A, 08/2010; PackageReference: TS8-8; PackageDescription: 8-Pin Plastic TSOT-23, Body 2.9 x 1.63 mm, Pitch 0.65 mm; Supplier 1: Digi-Key; Supplier Part Number 1: LTC2960ITS8-1#TRPBF-ND; Supplier 2: Newark; Supplier Part Number 2: 94T1230; Packing: Tape and Reel; RoHS: TRUE; Mounting Technology: Surface Mount; Code_JEDEC: MO-193; ComponentLink1Description: Manufacturer URL; ComponentLink1URL: http://www.linear.com/; ComponentLink2Description: Datasheet; ComponentLink2URL: http://cds.linear.com/docs/en/datasheet/2960f.pdf; ComponentLink3Description: Package Specification; ComponentLink3URL: http://cds.linear.com/docs/en/packaging/SOT_8_05-08-1637.pdf
footprint LT-TS8-8-TSOT-23_V (SOT23, 8-Leads, Body 2.9x1.75mm, Pitch 0.65mm)
pins: 1 IN+ (in) "IN+ Threshold Adjustment Input. Tie to resistive divider to configure required threshold. Tie to GND if unused.", 2 ADJ (in) "Reset Threshold Adjustment Input. Tie to resistive divider to configure desired reset threshold.", 3 ~{MR} (in) "Manual Reset Input. Attach a push-button switch or logic signal between this input and ground. A logic low on this input pulls R\S\T\ low. When the M\R\ input returns to logic high, R\S\T\ returns high after a reset timeout (See Datasheet)", 4 GND (power) "Device ground.", 5 OUT (oc) "Pulls low when monitored voltage falls below the IN+ threshold.", 6 ~{RST} (oc) "Reset Output. Pulls low when monitored voltage falls below the reset (ADJ) threshold.", 7 RT (in) "Reset Timeout Period Selection Input. Tie to GND for 15ms delay. Tie to VCC for 200ms delay.", 8 VCC (power) "Power Supply Input. When VCC falls below the falling UVLO threshold, the outputs are pulled low. If VCC falls below 1.2V the logic state of the outputs cannot be guaranteed. Bypass VCC with 0.1uF to GND. Use appropriate (See Datasheet)"

## LTC2960ITS8-2#PBF
designator U?
36 V Nano-Current Two Input Voltage Monitor, 8-pin SOT23 (TS8-8), -40 to 85 degC, Pb-Free; Manufacturer: Linear Technology; PartNumber: LTC2960ITS8-2#PBF; Number of Supplies(#): 2; PackageVersion: Rev. A, 08/2010; PackageReference: TS8-8; PackageDescription: 8-Pin Plastic TSOT-23, Body 2.9 x 1.63 mm, Pitch 0.65 mm; Supplier 1: Farnell; Supplier Part Number 1: 2097978; Supplier 2: Farnell; Supplier Part Number 2: 2146808; Supplier 3: Newark; Supplier Part Number 3: 93T2018; RoHS: TRUE; Mounting Technology: Surface Mount; Code_JEDEC: MO-193; ComponentLink1Description: Manufacturer URL; ComponentLink1URL: http://www.linear.com/; ComponentLink2Description: Datasheet; ComponentLink2URL: http://cds.linear.com/docs/en/datasheet/2960f.pdf; ComponentLink3Description: Package Specification; ComponentLink3URL: http://cds.linear.com/docs/en/packaging/SOT_8_05-08-1637.pdf
footprint LT-TS8-8-TSOT-23_V (SOT23, 8-Leads, Body 2.9x1.75mm, Pitch 0.65mm)
pins: 1 IN- (in) "IN- Threshold Adjustment Input. Tie to resistive divider to configure required threshold. Tie to GND if unused.", 2 ADJ (in) "Reset Threshold Adjustment Input. Tie to resistive divider to configure desired reset threshold.", 3 ~{MR} (in) "Manual Reset Input. Attach a push-button switch or logic signal between this input and ground. A logic low on this input pulls R\S\T\ low. When the M\R\ input returns to logic high, R\S\T\ returns high after a reset timeout (See Datasheet)", 4 GND (power) "Device ground.", 5 OUT (oc) "Pulls low when monitored voltage falls below the IN+ threshold.", 6 ~{RST} (oc) "Reset Output. Pulls low when monitored voltage falls below the reset (ADJ) threshold.", 7 RT (in) "Reset Timeout Period Selection Input. Tie to GND for 15ms delay. Tie to VCC for 200ms delay.", 8 VCC (power) "Power Supply Input. When VCC falls below the falling UVLO threshold, the outputs are pulled low. If VCC falls below 1.2V the logic state of the outputs cannot be guaranteed. Bypass VCC with 0.1uF to GND. Use appropriate (See Datasheet)"

## LTC2960ITS8-2#TRMPBF
designator U?
36 V Nano-Current Two Input Voltage Monitor, 8-pin SOT23 (TS8-8), -40 to 85 degC, Pb-Free, Mini Tape and Reel; Manufacturer: Linear Technology; PartNumber: LTC2960ITS8-2#TRMPBF; Number of Supplies(#): 2; PackageVersion: Rev. A, 08/2010; PackageReference: TS8-8; PackageDescription: 8-Pin Plastic TSOT-23, Body 2.9 x 1.63 mm, Pitch 0.65 mm; Supplier 1: Digi-Key; Supplier Part Number 1: LTC2960ITS8-2#TRMPBFTR-ND; Supplier 2: Digi-Key; Supplier Part Number 2: LTC2960ITS8-2#TRMPBFCT-ND; Supplier 3: Digi-Key; Supplier Part Number 3: LTC2960ITS8-2#TRMPBFDKR-ND; Supplier 4: Newark; Supplier Part Number 4: 94T1231; Packing: Mini Tape and Reel; RoHS: TRUE; Mounting Technology: Surface Mount; Code_JEDEC: MO-193; ComponentLink1Description: Manufacturer URL; ComponentLink1URL: http://www.linear.com/; ComponentLink2Description: Datasheet; ComponentLink2URL: http://cds.linear.com/docs/en/datasheet/2960f.pdf; ComponentLink3Description: Package Specification; ComponentLink3URL: http://cds.linear.com/docs/en/packaging/SOT_8_05-08-1637.pdf
footprint LT-TS8-8-TSOT-23_V (SOT23, 8-Leads, Body 2.9x1.75mm, Pitch 0.65mm)
pins: 1 IN- (in) "IN- Threshold Adjustment Input. Tie to resistive divider to configure required threshold. Tie to GND if unused.", 2 ADJ (in) "Reset Threshold Adjustment Input. Tie to resistive divider to configure desired reset threshold.", 3 ~{MR} (in) "Manual Reset Input. Attach a push-button switch or logic signal between this input and ground. A logic low on this input pulls R\S\T\ low. When the M\R\ input returns to logic high, R\S\T\ returns high after a reset timeout (See Datasheet)", 4 GND (power) "Device ground.", 5 OUT (oc) "Pulls low when monitored voltage falls below the IN+ threshold.", 6 ~{RST} (oc) "Reset Output. Pulls low when monitored voltage falls below the reset (ADJ) threshold.", 7 RT (in) "Reset Timeout Period Selection Input. Tie to GND for 15ms delay. Tie to VCC for 200ms delay.", 8 VCC (power) "Power Supply Input. When VCC falls below the falling UVLO threshold, the outputs are pulled low. If VCC falls below 1.2V the logic state of the outputs cannot be guaranteed. Bypass VCC with 0.1uF to GND. Use appropriate (See Datasheet)"

## LTC2960ITS8-2#TRPBF
designator U?
36 V Nano-Current Two Input Voltage Monitor, 8-pin SOT23 (TS8-8), -40 to 85 degC, Pb-Free, Tape and Reel; Manufacturer: Linear Technology; PartNumber: LTC2960ITS8-2#TRPBF; Number of Supplies(#): 2; PackageVersion: Rev. A, 08/2010; PackageReference: TS8-8; PackageDescription: 8-Pin Plastic TSOT-23, Body 2.9 x 1.63 mm, Pitch 0.65 mm; Supplier 1: Digi-Key; Supplier Part Number 1: LTC2960ITS8-2#TRPBF-ND; Packing: Tape and Reel; RoHS: TRUE; Mounting Technology: Surface Mount; Code_JEDEC: MO-193; ComponentLink1Description: Manufacturer URL; ComponentLink1URL: http://www.linear.com/; ComponentLink2Description: Datasheet; ComponentLink2URL: http://cds.linear.com/docs/en/datasheet/2960f.pdf; ComponentLink3Description: Package Specification; ComponentLink3URL: http://cds.linear.com/docs/en/packaging/SOT_8_05-08-1637.pdf
footprint LT-TS8-8-TSOT-23_V (SOT23, 8-Leads, Body 2.9x1.75mm, Pitch 0.65mm)
pins: 1 IN- (in) "IN- Threshold Adjustment Input. Tie to resistive divider to configure required threshold. Tie to GND if unused.", 2 ADJ (in) "Reset Threshold Adjustment Input. Tie to resistive divider to configure desired reset threshold.", 3 ~{MR} (in) "Manual Reset Input. Attach a push-button switch or logic signal between this input and ground. A logic low on this input pulls R\S\T\ low. When the M\R\ input returns to logic high, R\S\T\ returns high after a reset timeout (See Datasheet)", 4 GND (power) "Device ground.", 5 OUT (oc) "Pulls low when monitored voltage falls below the IN+ threshold.", 6 ~{RST} (oc) "Reset Output. Pulls low when monitored voltage falls below the reset (ADJ) threshold.", 7 RT (in) "Reset Timeout Period Selection Input. Tie to GND for 15ms delay. Tie to VCC for 200ms delay.", 8 VCC (power) "Power Supply Input. When VCC falls below the falling UVLO threshold, the outputs are pulled low. If VCC falls below 1.2V the logic state of the outputs cannot be guaranteed. Bypass VCC with 0.1uF to GND. Use appropriate (See Datasheet)"

## LTC2960ITS8-3#PBF
designator U?
36 V Nano-Current Two Input Voltage Monitor, 8-pin SOT23 (TS8-8), -40 to 85 degC, Pb-Free; Manufacturer: Linear Technology; PartNumber: LTC2960ITS8-3#PBF; Number of Supplies(#): 2; PackageVersion: Rev. A, 08/2010; PackageReference: TS8-8; PackageDescription: 8-Pin Plastic TSOT-23, Body 2.9 x 1.63 mm, Pitch 0.65 mm; Supplier 1: Farnell; Supplier Part Number 1: 2097979; Supplier 2: Newark; Supplier Part Number 2: 93T2019; RoHS: TRUE; Mounting Technology: Surface Mount; Code_JEDEC: MO-193; ComponentLink1Description: Manufacturer URL; ComponentLink1URL: http://www.linear.com/; ComponentLink2Description: Datasheet; ComponentLink2URL: http://cds.linear.com/docs/en/datasheet/2960f.pdf; ComponentLink3Description: Package Specification; ComponentLink3URL: http://cds.linear.com/docs/en/packaging/SOT_8_05-08-1637.pdf
footprint LT-TS8-8-TSOT-23_V (SOT23, 8-Leads, Body 2.9x1.75mm, Pitch 0.65mm)
pins: 1 IN+ (in) "IN+ Threshold Adjustment Input. Tie to resistive divider to configure required threshold. Tie to GND if unused.", 2 ADJ (in) "Reset Threshold Adjustment Input. Tie to resistive divider to configure desired reset threshold.", 3 ~{MR} (in) "Manual Reset Input. Attach a push-button switch or logic signal between this input and ground. A logic low on this input pulls R\S\T\ low. When the M\R\ input returns to logic high, R\S\T\ returns high after a reset timeout (See Datasheet)", 4 GND (power) "Device ground.", 5 OUT (oc) "Pulls low when monitored voltage falls below the IN+ threshold.", 6 ~{RST} (oc) "Reset Output. Pulls low when monitored voltage falls below the reset (ADJ) threshold.", 7 DVCC (power) "Logic Supply Input. Used for setting the logic swing of the R\S\T\ and OUT outputs. Useful for interfacing with logic voltages different from VCC. Bypass DVCC with 0.1uF to GND. Grounding DVCC allows OUT and R\S\T\ to act as (See Datasheet)", 8 VCC (power) "Power Supply Input. When VCC falls below the falling UVLO threshold, the outputs are pulled low. If VCC falls below 1.2V the logic state of the outputs cannot be guaranteed. Bypass VCC with 0.1uF to GND. Use appropriate (See Datasheet)"

## LTC2960ITS8-3#TRMPBF
designator U?
36 V Nano-Current Two Input Voltage Monitor, 8-pin SOT23 (TS8-8), -40 to 85 degC, Pb-Free, Mini Tape and Reel; Manufacturer: Linear Technology; PartNumber: LTC2960ITS8-3#TRMPBF; Number of Supplies(#): 2; PackageVersion: Rev. A, 08/2010; PackageReference: TS8-8; PackageDescription: 8-Pin Plastic TSOT-23, Body 2.9 x 1.63 mm, Pitch 0.65 mm; Supplier 1: Digi-Key; Supplier Part Number 1: LTC2960ITS8-3#TRMPBFTR-ND; Supplier 2: Digi-Key; Supplier Part Number 2: LTC2960ITS8-3#TRMPBFCT-ND; Supplier 3: Digi-Key; Supplier Part Number 3: LTC2960ITS8-3#TRMPBFDKR-ND; Packing: Mini Tape and Reel; RoHS: TRUE; Mounting Technology: Surface Mount; Code_JEDEC: MO-193; ComponentLink1Description: Manufacturer URL; ComponentLink1URL: http://www.linear.com/; ComponentLink2Description: Datasheet; ComponentLink2URL: http://cds.linear.com/docs/en/datasheet/2960f.pdf; ComponentLink3Description: Package Specification; ComponentLink3URL: http://cds.linear.com/docs/en/packaging/SOT_8_05-08-1637.pdf
footprint LT-TS8-8-TSOT-23_V (SOT23, 8-Leads, Body 2.9x1.75mm, Pitch 0.65mm)
pins: 1 IN+ (in) "IN+ Threshold Adjustment Input. Tie to resistive divider to configure required threshold. Tie to GND if unused.", 2 ADJ (in) "Reset Threshold Adjustment Input. Tie to resistive divider to configure desired reset threshold.", 3 ~{MR} (in) "Manual Reset Input. Attach a push-button switch or logic signal between this input and ground. A logic low on this input pulls R\S\T\ low. When the M\R\ input returns to logic high, R\S\T\ returns high after a reset timeout (See Datasheet)", 4 GND (power) "Device ground.", 5 OUT (oc) "Pulls low when monitored voltage falls below the IN+ threshold.", 6 ~{RST} (oc) "Reset Output. Pulls low when monitored voltage falls below the reset (ADJ) threshold.", 7 DVCC (power) "Logic Supply Input. Used for setting the logic swing of the R\S\T\ and OUT outputs. Useful for interfacing with logic voltages different from VCC. Bypass DVCC with 0.1uF to GND. Grounding DVCC allows OUT and R\S\T\ to act as (See Datasheet)", 8 VCC (power) "Power Supply Input. When VCC falls below the falling UVLO threshold, the outputs are pulled low. If VCC falls below 1.2V the logic state of the outputs cannot be guaranteed. Bypass VCC with 0.1uF to GND. Use appropriate (See Datasheet)"

## LTC2960ITS8-3#TRPBF
designator U?
36 V Nano-Current Two Input Voltage Monitor, 8-pin SOT23 (TS8-8), -40 to 85 degC, Pb-Free, Tape and Reel; Manufacturer: Linear Technology; PartNumber: LTC2960ITS8-3#TRPBF; Number of Supplies(#): 2; PackageVersion: Rev. A, 08/2010; PackageReference: TS8-8; PackageDescription: 8-Pin Plastic TSOT-23, Body 2.9 x 1.63 mm, Pitch 0.65 mm; Supplier 1: Digi-Key; Supplier Part Number 1: LTC2960ITS8-3#TRPBF-ND; Packing: Tape and Reel; RoHS: TRUE; Mounting Technology: Surface Mount; Code_JEDEC: MO-193; ComponentLink1Description: Manufacturer URL; ComponentLink1URL: http://www.linear.com/; ComponentLink2Description: Datasheet; ComponentLink2URL: http://cds.linear.com/docs/en/datasheet/2960f.pdf; ComponentLink3Description: Package Specification; ComponentLink3URL: http://cds.linear.com/docs/en/packaging/SOT_8_05-08-1637.pdf
footprint LT-TS8-8-TSOT-23_V (SOT23, 8-Leads, Body 2.9x1.75mm, Pitch 0.65mm)
pins: 1 IN+ (in) "IN+ Threshold Adjustment Input. Tie to resistive divider to configure required threshold. Tie to GND if unused.", 2 ADJ (in) "Reset Threshold Adjustment Input. Tie to resistive divider to configure desired reset threshold.", 3 ~{MR} (in) "Manual Reset Input. Attach a push-button switch or logic signal between this input and ground. A logic low on this input pulls R\S\T\ low. When the M\R\ input returns to logic high, R\S\T\ returns high after a reset timeout (See Datasheet)", 4 GND (power) "Device ground.", 5 OUT (oc) "Pulls low when monitored voltage falls below the IN+ threshold.", 6 ~{RST} (oc) "Reset Output. Pulls low when monitored voltage falls below the reset (ADJ) threshold.", 7 DVCC (power) "Logic Supply Input. Used for setting the logic swing of the R\S\T\ and OUT outputs. Useful for interfacing with logic voltages different from VCC. Bypass DVCC with 0.1uF to GND. Grounding DVCC allows OUT and R\S\T\ to act as (See Datasheet)", 8 VCC (power) "Power Supply Input. When VCC falls below the falling UVLO threshold, the outputs are pulled low. If VCC falls below 1.2V the logic state of the outputs cannot be guaranteed. Bypass VCC with 0.1uF to GND. Use appropriate (See Datasheet)"

## LTC2960ITS8-4#PBF
designator U?
36 V Nano-Current Two Input Voltage Monitor, 8-pin SOT23 (TS8-8), -40 to 85 degC, Pb-Free; Manufacturer: Linear Technology; PartNumber: LTC2960ITS8-4#PBF; Number of Supplies(#): 2; PackageVersion: Rev. A, 08/2010; PackageReference: TS8-8; PackageDescription: 8-Pin Plastic TSOT-23, Body 2.9 x 1.63 mm, Pitch 0.65 mm; Supplier 1: Farnell; Supplier Part Number 1: 2097980; Supplier 2: Newark; Supplier Part Number 2: 93T2020; RoHS: TRUE; Mounting Technology: Surface Mount; Code_JEDEC: MO-193; ComponentLink1Description: Manufacturer URL; ComponentLink1URL: http://www.linear.com/; ComponentLink2Description: Datasheet; ComponentLink2URL: http://cds.linear.com/docs/en/datasheet/2960f.pdf; ComponentLink3Description: Package Specification; ComponentLink3URL: http://cds.linear.com/docs/en/packaging/SOT_8_05-08-1637.pdf
footprint LT-TS8-8-TSOT-23_V (SOT23, 8-Leads, Body 2.9x1.75mm, Pitch 0.65mm)
pins: 1 IN- (in) "IN- Threshold Adjustment Input. Tie to resistive divider to configure required threshold. Tie to GND if unused.", 2 ADJ (in) "Reset Threshold Adjustment Input. Tie to resistive divider to configure desired reset threshold.", 3 ~{MR} (in) "Manual Reset Input. Attach a push-button switch or logic signal between this input and ground. A logic low on this input pulls R\S\T\ low. When the M\R\ input returns to logic high, R\S\T\ returns high after a reset timeout (See Datasheet)", 4 GND (power) "Device ground.", 5 OUT (oc) "OUT pulls low when the monitored voltage rises above the IN- threshold. Released when monitored voltage falls below IN- threshold by 5%. For the LTC2960-4, OUT is driven to DVCC for a logic high. OUT is open drain if DVCC is (See Datasheet)", 6 ~{RST} (oc) "Reset Output. Pulls low when monitored voltage falls below the reset (ADJ) threshold. R\S\T\ is released after monitored voltage exceeds the reset threshold plus 2.5% hysteresis and after reset timeout period has expired. (See Datasheet)", 7 DVCC (power) "Logic Supply Input. Used for setting the logic swing of the R\S\T\ and OUT outputs. Useful for interfacing with logic voltages different from VCC. Bypass DVCC with 0.1uF to GND. Grounding DVCC allows OUT and R\S\T\ to act as (See Datasheet)", 8 VCC (power) "Power Supply Input. When VCC falls below the falling UVLO threshold, the outputs are pulled low. If VCC falls below 1.2V the logic state of the outputs cannot be guaranteed. Bypass VCC with 0.1uF to GND. Use appropriate (See Datasheet)"

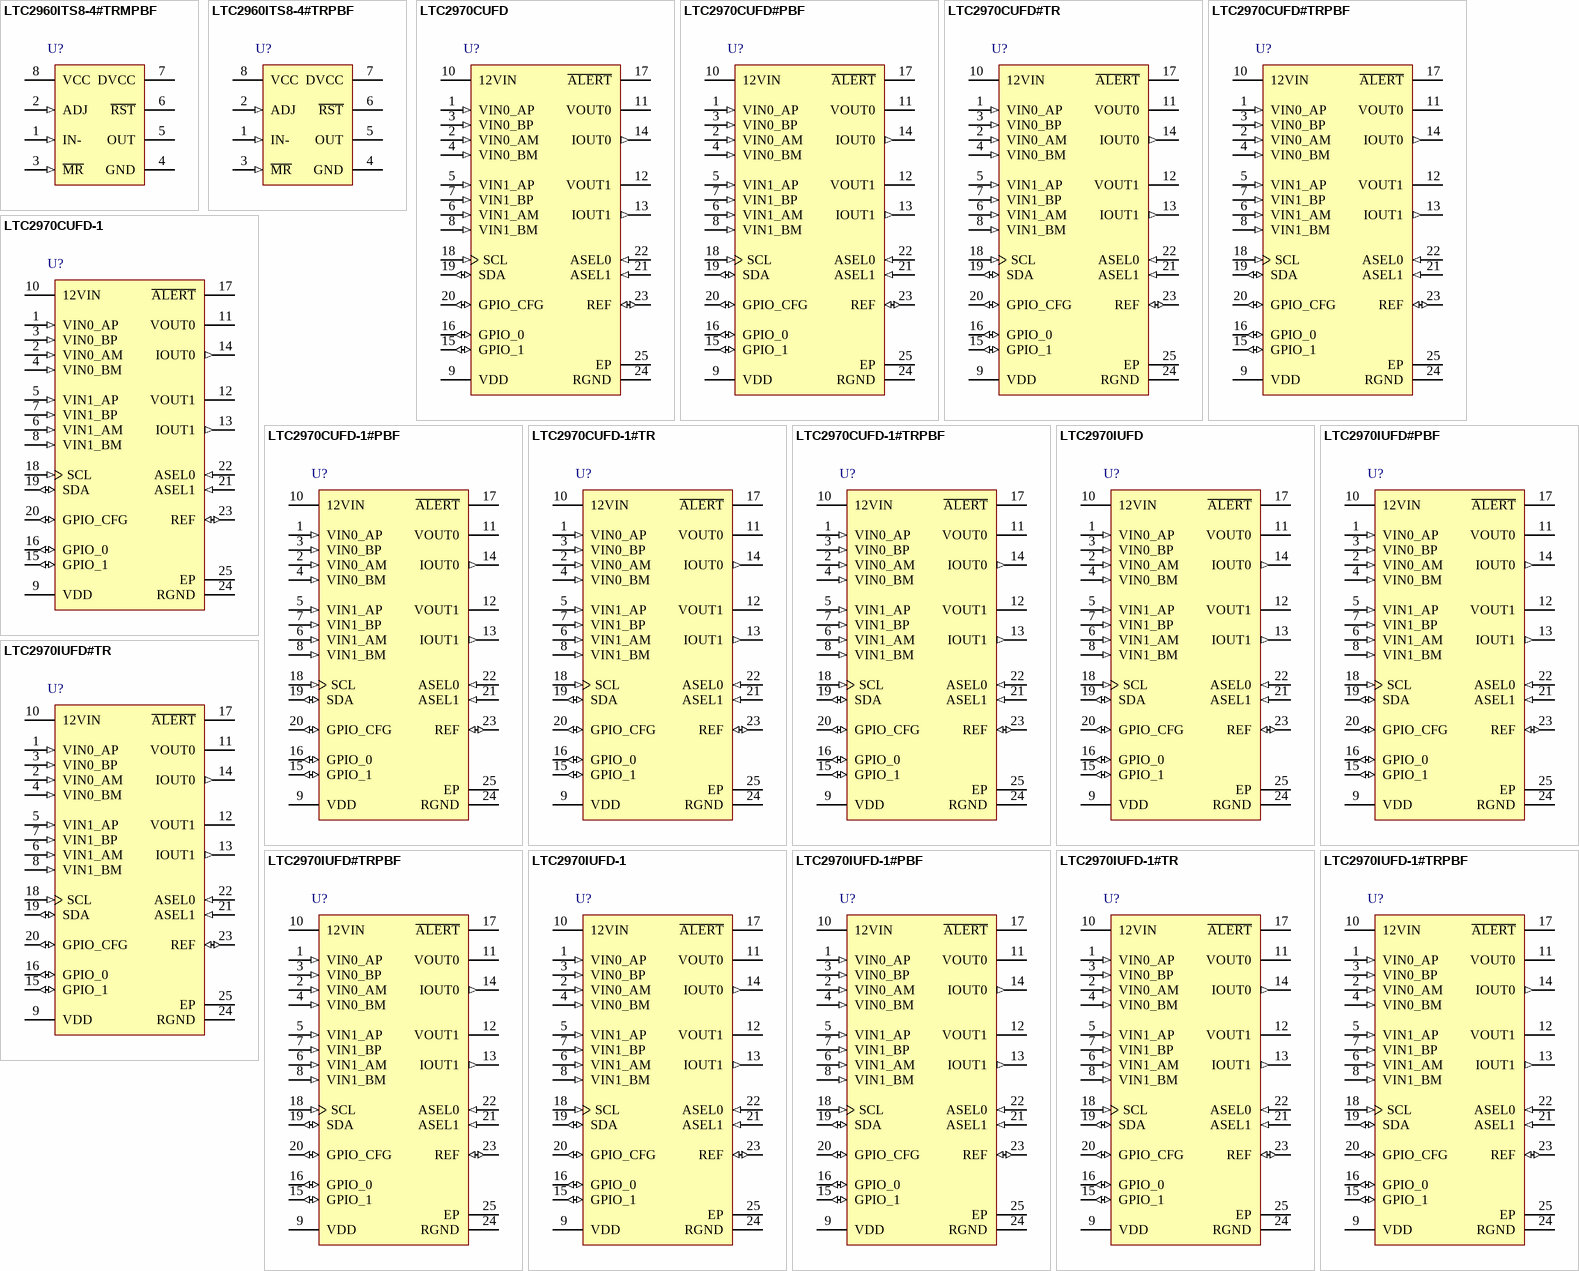
[diagram p42: symbols LTC2960ITS8-4#TRMPBF to LTC2970IUFD-1#TRPBF]